# Altium footprint library 主板1.PcbLib: 19 footprints (part 1 of 2)
Each footprint in its own frame and in the unit in brackets; x right, y up, seen from the top. Pads: shape width x height; smd on the part's side, far side on the other; paste and mask are expansions set on the pad; w line width, h text height; cw(c..) or ccw(c..) is an arc to the next point about the centre after c.
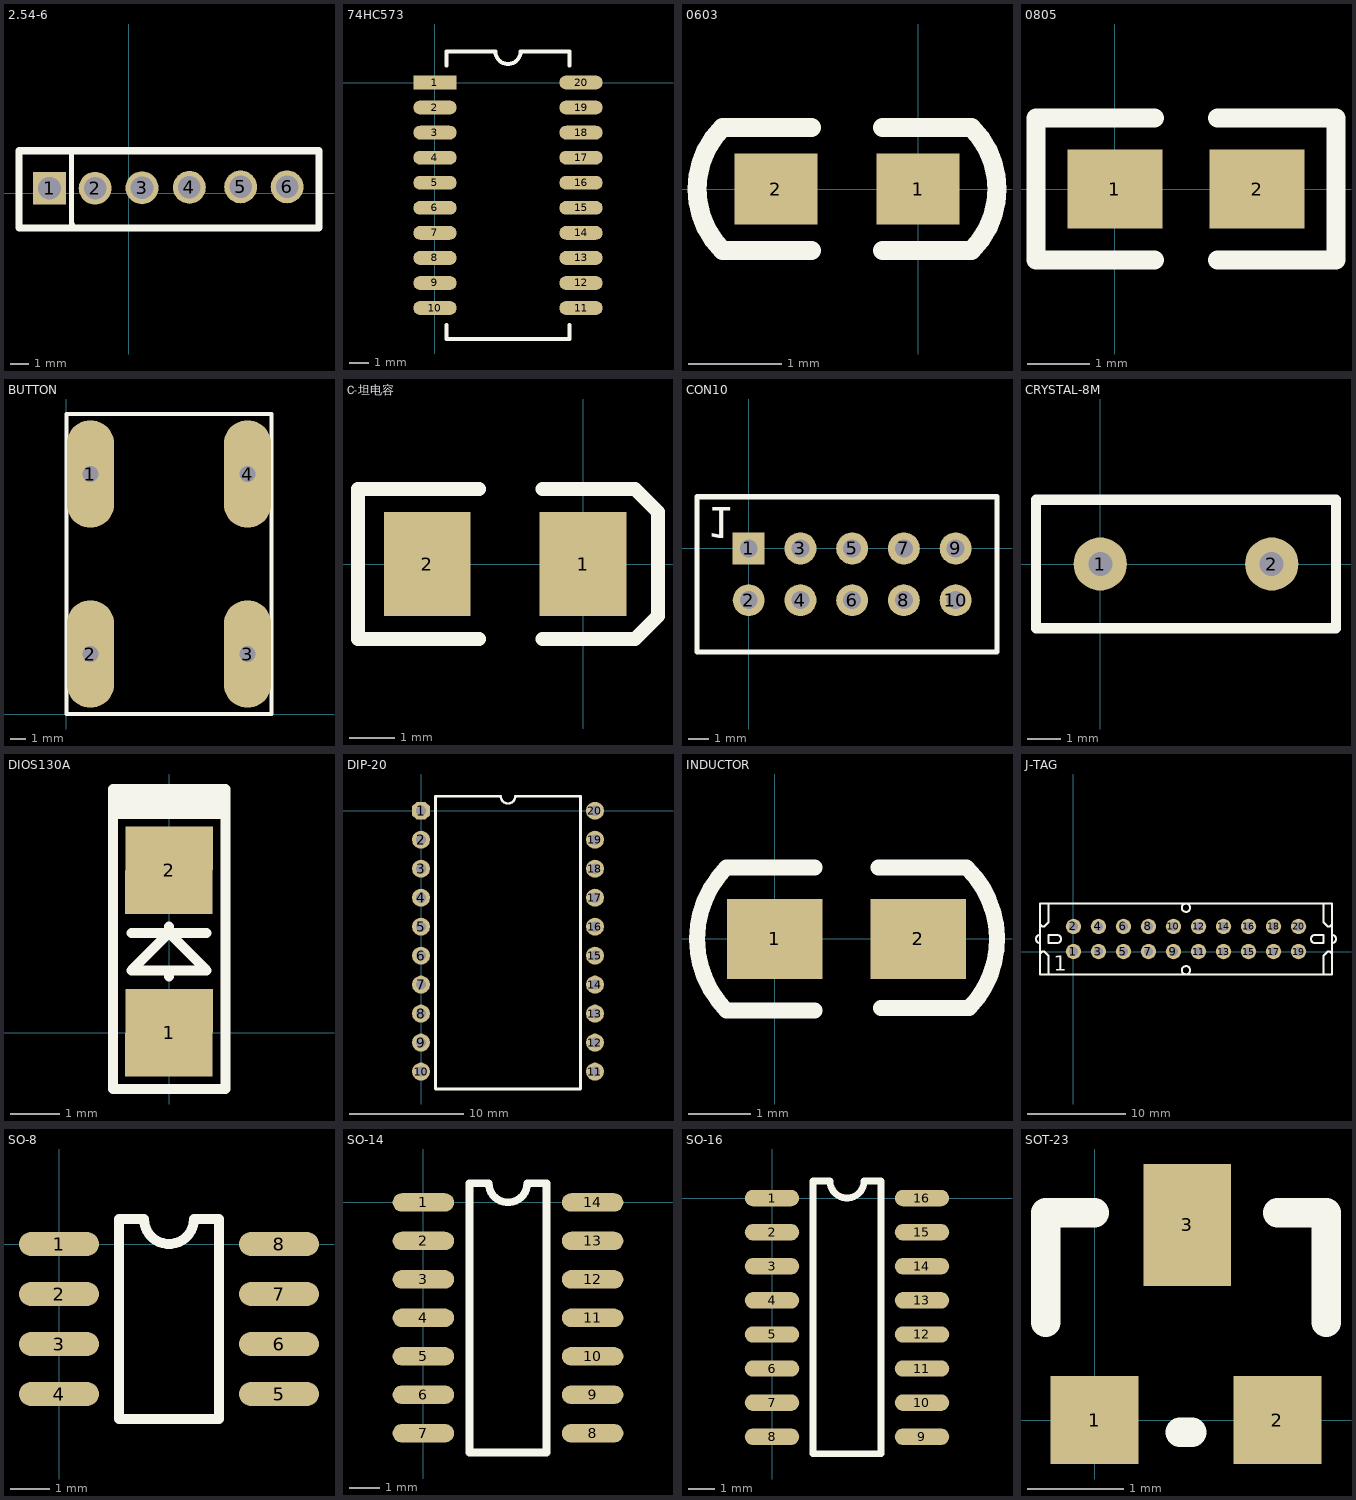
[diagram p0: the footprints below, top view; thin cyan lines are the x and y axes]

## 2.54-6 [mil]
pads (6):
  rect 70x70 hole 48: 1(-169,11)
  round 70 hole 48: 2(-72,11) 3(28,12) 4(129,13) 5(238,14) 6(337,14)
Top Overlay:
  lines w10: -122,93 -122,-64 -120,-66
  lines w15: -234,-74 405,-74 405,91 -234,91 -234,-74

## 74HC573 [mm]
pads (20):
  rect 2.2x0.7 smd: 1(0,0)
  oval 2.2x0.7 smd: 2(0,-1.27) 3(0,-2.54) 4(0,-3.81) 5(0,-5.08) 6(0,-6.35) 7(0,-7.62) 8(0,-8.89) 9(0,-10.16) 10(0,-11.43) 11(7.4,-11.43) 12(7.4,-10.16) 13(7.4,-8.89) 14(7.4,-7.62) 15(7.4,-6.35) 16(7.4,-5.08) 17(7.4,-3.81) 18(7.4,-2.54) 19(7.4,-1.27) 20(7.4,0)
Top Overlay:
  lines w0.2: 0.59,-12.28 0.59,-13 6.81,-13 6.81,-12.28 ; 0.59,0.85 0.59,1.57 3.065,1.57 ccw(c3.7,1.57) 4.335,1.57 6.81,1.57 6.81,0.85

## 0603 [mil]
pads (2):
  rect 35x30 smd: 1(0,0) 2(-60,0)
Top Overlay:
  lines w8: -45,-26 -82.5,-26 cw(c-56.5,0) -82.5,26 -45,26 ; -15,-26 22.5,-26 ccw(c-3.5,0) 22.5,26 -15,26

## 0805 [mil]
pads (2):
  rect 60x50 smd: 1(0,0) 2(90,0)
Top Overlay:
  lines w12: 25,-45 -50,-45 -50,45 25,45 ; 65,-45 140,-45 140,45 65,45

## BUTTON [mm]
pads (4):
  oval 3x6.8 hole 1: 1(1.525,15.2) 2(1.525,3.8) 3(11.475,3.8) 4(11.475,15.2)
Top Overlay:
  lines w0.254: 0,0 0,19 13,19 13,0 0,0

## C-坦电容 [mil]
pads (2):
  rect 75x90 smd: 1(0,0) 2(-135,0)
Top Overlay:
  lines w12: -90,-65 -195,-65 -195,65 -90,65 ; -35,-65 45,-65 65,-45 65,45 45,65 -35,65

## CON10 [mm]
pads (10):
  rect 1.57x1.57 hole 0.88: 1(0,0)
  round 1.57 hole 0.88: 2(0,-2.54) 3(2.54,0) 4(2.54,-2.54) 5(5.08,0) 6(5.08,-2.54) 7(7.62,0) 8(7.62,-2.54) 9(10.16,0) 10(10.16,-2.54)
Top Overlay:
  lines w0.254: -2.54,-5.08 -2.54,2.54 10.16,2.54 12.192,2.54 12.192,-5.08 10.16,-5.08 -2.54,-5.08
  text "1" at -2.032,2.032 h1.52

## CRYSTAL-8M [mil]
pads (2):
  round 62 hole 28: 1(0,0) 2(200,0)
Top Overlay:
  lines w12: -75,-75 275,-75 275,75 -75,75 -75,-75

## DIOS130A [mil]
pads (2):
  rect 70x70 smd: 1(0,0) 2(0,130)
Top Overlay:
  lines w8: -44,180 44,180 ; -44,190 45,190 ; -30,80 30,80 ; 0,45 0,50 ; 0,85 0,80 ; -45,175 -45,-45 45,-45 45,175 ; -45,175 45,175 ; -45,175 -45,185 ; -45,185 45,185 ; -45,185 -45,195 45,195 45,185 ; 0,80 -30,50 30,50 0,80 ; 45,175 45,185

## DIP-20 [mil]
pads (20):
  oct 62x62 hole 35: 1(0,0)
  round 62 hole 35: 2(0,-100) 3(0,-200) 4(0,-300) 5(0,-400) 6(0,-500) 7(0,-600) 8(0,-700) 9(0,-800) 10(0,-900) 11(600,-900) 12(600,-800) 13(600,-700) 14(600,-600) 15(600,-500) 16(600,-400) 17(600,-300) 18(600,-200) 19(600,-100) 20(600,0)
Top Overlay:
  lines w7.87: 50,50 275,50 ccw(c300,50) 325,50 550,50
  lines w10: 50,50 50,-960 550,-960 550,50

## INDUCTOR [mil]
pads (2):
  rect 60x50 smd: 1(0,0) 2(90,0)
Top Overlay:
  lines w10: 25,-45 -30.32,-45 cw(c14.69,0) -30.32,45 25,45 ; 65,45 120.31,45 cw(c77.03,-0.02) 122.05,-43.31 66.73,-43.31

## J-TAG [mil]
pads (20):
  round 62 hole 35: 1(0,0) 2(0,100) 3(100,0) 4(100,100) 5(200,0) 6(200,100) 7(300,0) 8(300,100) 9(400,0) 10(400,100) 11(500,0) 12(500,100) 13(600,0) 14(600,100) 15(700,0) 16(700,100) 17(800,0) 18(800,100) 19(900,0) 20(900,100)
Top Overlay:
  circle w8: c450,-75 r16.67
  circle w8: c450,175 r16.67
  lines w8: -133.33,-8.33 -125,0 -116.67,0 -100,-16.67 -100,-91.67 ; -133.33,33.33 cw(c-133.33,50) -133.33,66.67 ; -133.33,108.33 -125,100 -116.67,100 -100,116.67 -100,191.67 ; 1000,-91.67 1000,-16.67 1016.67,0 1025,0 1033.33,-8.33 ; 1000,191.67 1000,116.67 1016.67,100 1025,100 1033.33,108.33 ; 1033.33,33.33 ccw(c1033.33,50) 1033.33,66.67 ; -133.33,-91.67 -133.33,191.67 1033.33,191.67 1033.33,-91.67 -133.33,-91.67 ; -100,33.33 -100,66.67 -66.67,66.67 cw(c-66.67,50) -66.67,33.33 -100,33.33 ; 966.67,33.33 cw(c966.67,50) 966.67,66.67 1000,66.67 1000,33.33 966.67,33.33
  text "1" at -79,-77 h60

## SO-8 [mil]
pads (8):
  oval 80x24 smd: 1(0,0) 2(0,-50) 3(0,-100) 4(0,-150) 5(220,-150) 6(220,-100) 7(220,-50) 8(220,0)
Top Overlay:
  lines w10: 60,-175 60,25 85,25 ccw(c110,25) 135,25 160,25 160,-175 60,-175

## SO-14 [mil]
pads (14):
  oval 80x24 smd: 1(0,0) 2(0,-50) 3(0,-100) 4(0,-150) 5(0,-200) 6(0,-250) 7(0,-300) 8(220,-300) 9(220,-250) 10(220,-200) 11(220,-150) 12(220,-100) 13(220,-50) 14(220,0)
Top Overlay:
  lines w10: 60,-325 60,25 85,25 ccw(c110,25) 135,25 160,25 160,-325 60,-325

## SO-16 [mil]
pads (16):
  oval 80x24 smd: 1(0,0) 2(0,-50) 3(0,-100) 4(0,-150) 5(0,-200) 6(0,-250) 7(0,-300) 8(0,-350) 9(220,-350) 10(220,-300) 11(220,-250) 12(220,-200) 13(220,-150) 14(220,-100) 15(220,-50) 16(220,0)
Top Overlay:
  lines w10: 60,-375 160,-375 160,25 135,25 cw(c110,25) 85,25 60,25 60,-375

## SOT-23 [mil]
pads (3):
  rect 36x36 smd: 1(0,0) 2(75,0)
  rect 36x50 smd: 3(38,80)
Top Overlay:
  lines w12: -20,40 -20,85 0,85 ; 35,-5 40,-5 ; 75,85 95,85 95,40